# Altium schematic symbol library Diode_SMAJ15A.Schlib: 1 symbol
Pins are listed as number, name and electrical type; pins without a type are passive.

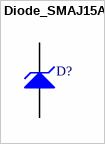
[diagram p0: symbol Diode_SMAJ15A]

## Diode_SMAJ15A
designator D?
Transient Voltage Suppressors
footprint DO-214AC
pins: 1 A, 2 K